# Altium schematic symbol library Discrete_Silicon.SchLib: 7 symbols
Pins are listed as number, name and electrical type; pins without a type are passive.

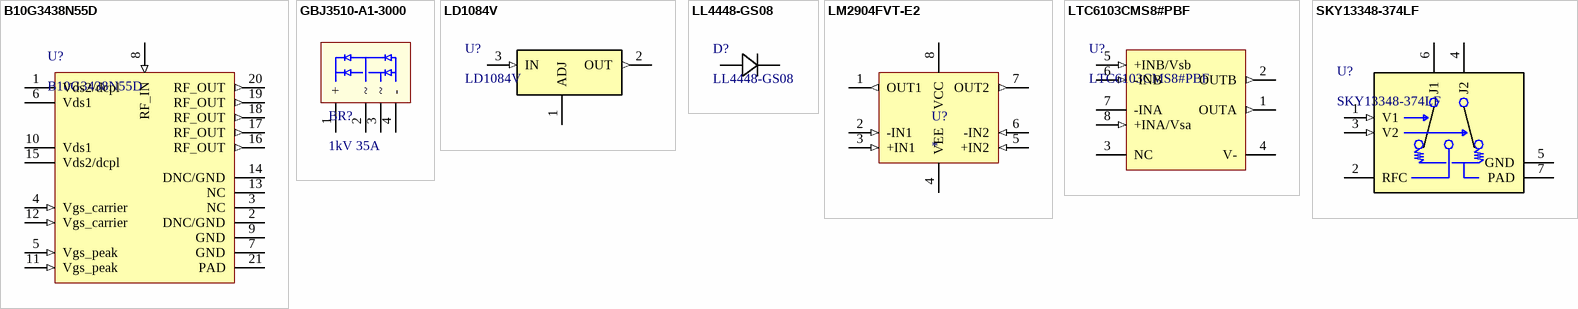
[diagram p0: symbols B10G3438N55D to SKY13348-374LF]

## B10G3438N55D
designator U?
RF Mosfet LDMOS 28 V 75 mA 3.4GHz ~ 3.8GHz 34.2dB 47.5dBm
footprint QFN115P800X800X220_HS-21N (QFN, 20-Leads, Body 8.00x8.00mm, Pitch 1.15mm, Thermal Pad 4.63x4.62mm, IPC Medium Density)
pins: 1 Vds2/dcpl (power) "drain-source voltage of final stages / video-lead for decoupling", 2 DNC/GND "no connect or ground", 3 NC (hiz) "no connect or ground", 4 Vgs_carrier (in), 5 Vgs_peak (in), 6 Vds1 (power) "Driver stage drain-source", 7 GND (power), 8 RF_IN (in), 9 GND (power), 10 Vds1 (power) "Driver stage drain-source", 11 Vgs_peak (in), 12 Vgs_carrier (in), 13 NC (hiz), 14 DNC/GND (power), 15 Vds2/dcpl (power) "drain-source voltage of final stages / video-lead for decoupling", 16 RF_OUT (out), 17 RF_OUT (out), 18 RF_OUT (out), 19 RF_OUT (out), 20 RF_OUT (out), 21 PAD (power)

## GBJ3510-A1-3000
designator BR?, comment 1kV 35A
RECT BRIDGE 1000V 35A 6KBJ; Supplier 1: DigiKey; Supplier Part Number 1: 3191-GBJ3510-A1-3000-ND
pins: 1 + (power), 2 ~ (power), 3 ~ (power), 4 - (power)

## LD1084V
designator U?
Linear Voltage Regulator IC Positive Adjustable 1 Output 5A TO-220; Mfr_Name: STMicroelectronics; Copyright: Copyright (C) 2022 Ultra Librarian. All rights reserved.; Manufacturer_Part_Number: LD1084V; Digi-Key_Part_Number_1: 497-3413-5-ND; RefDes: RefDes; Type: DEV
footprint TO-220FP_STM
pins: 1 ADJ, 2 OUT (out), 3 IN (in)

## LL4448-GS08
designator D?
Diode Standard 100 V 150mA Surface Mount SOD-80 MiniMELF; Mfr_Name: Vishay; Type: DEV; Copyright: Copyright (C) 2022 Ultra Librarian. All rights reserved.; Manufacturer_Part_Number: LL4448-GS08; Digi-Key_Part_Number_1: LL4448-GS08CT-ND; Digi-Key_Part_Number_2: LL4448-GS08DKR-ND; Digi-Key_Part_Number_3: LL4448-GS08TR-ND; RefDes: RefDes
footprint MELF_SOD-80_VIS
pins: 1, 2

## LM2904FVT-E2
designator U?
General Purpose Amplifier 2 Circuit Push-Pull 8-TSSOP-B
footprint TSOP65P640X120-8N (TSOP, 8-Leads, Body 3.00x4.40mm, Pitch 0.65mm, IPC Medium Density)
pins: 1 OUT1 (out), 2 -IN1 (in), 3 +IN1 (in), 4 VEE (power), 5 +IN2 (in), 6 -IN2 (in), 7 OUT2 (out), 8 VCC (power)

## LTC6103CMS8#PBF
designator U?
IC CURRENT SENSE 2 CIRCUIT 8MSOP
footprint TSOP65P640X120-8N (TSOP, 8-Leads, Body 3.00x4.40mm, Pitch 0.65mm, IPC Medium Density)
pins: 1 OUTA (out), 2 OUTB (out), 3 NC (hiz), 4 V- (power), 5 +INB/Vsb (in), 6 -INB (in), 7 -INA (power), 8 +INA/Vsa (in)

## SKY13348-374LF
designator U?
RF Switch IC SPDT 6 GHz 50Ohm 37dBm 6-MLPD (1.5x1.5); Mfr_Name: Skyworks; Copyright: Copyright (C) 2022 Ultra Librarian. All rights reserved.; Manufacturer_Part_Number: SKY13348-374LF; Digi-Key_Part_Number_1: 863-1335-1-ND; Digi-Key_Part_Number_2: 863-1335-2-ND; Digi-Key_Part_Number_3: 863-1335-6-ND; RefDes: RefDes; Type: DEV; Supplier 1: Digi-Key; Supplier Part Number 1: 863-1335-1-ND
footprint SON7_1p5sq_SKY
pins: 1 V1 (in), 2 RFC, 3 V2 (in), 4 J2, 5 GND (power), 6 J1, 7 PAD (power)